# EAGLE library part GP2Y0A60SZ (library we-sensor)
Sharp GP2Y0A60SZxF Distance Measuring Sensor (10 to 150 cm)
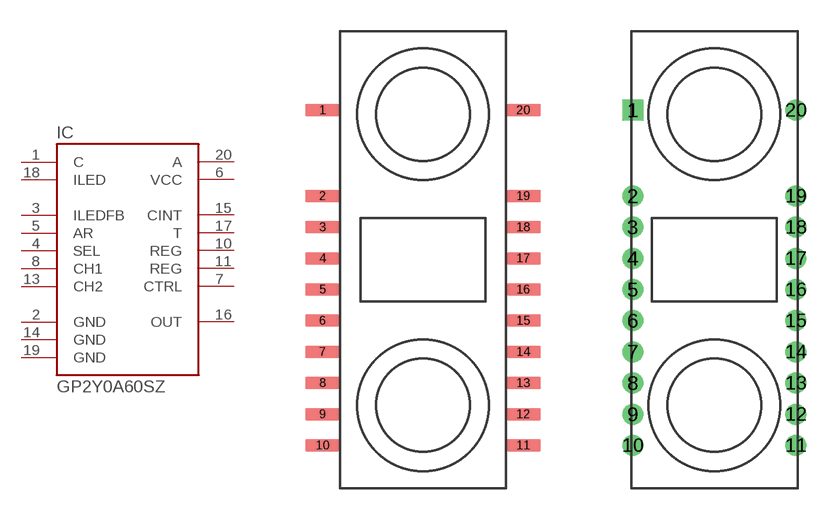
[diagram p3: symbol with the pads of GP2Y0A60SZ0F; footprints GP2Y0A60SZ0F, GP2Y0A60SZLF]

Designator prefix IC

## GP2Y0A60SZ0F  [GP2Y0A60SZ0F]
1  C
2  GND  pwr
3  ILEDFB
4  SEL
5  AR
6  VCC  pwr
7  CTRL
8  CH1
10  REG
11  REG
13  CH2
14  GND  pwr
15  CINT
16  OUT  out
17  T
18  ILED
19  GND  pwr
20  A

## GP2Y0A60SZLF  [GP2Y0A60SZLF]
Pads as for GP2Y0A60SZ0F

## Footprint GP2Y0A60SZ0F (pad centres in mm)
smd 1.676 x 0.6: 1 -4.826,7.2; 2 -4.826,3.07; 3 -4.826,1.57; 4 -4.826,0.07; 5 -4.826,-1.43; 6 -4.826,-2.93; 7 -4.826,-4.43; 8 -4.826,-5.93; 9 -4.826,-7.43; 10 -4.826,-8.93; 11 4.826,-8.93; 12 4.826,-7.43; 13 4.826,-5.93; 14 4.826,-4.43; 15 4.826,-2.93; 16 4.826,-1.43; 17 4.826,0.07; 18 4.826,1.57; 19 4.826,3.07; 20 4.826,7.2

## Footprint GP2Y0A60SZLF (pad centres in mm)
drill 0.5 pad 1 square: 1 -3.925,7.2
drill 0.5 pad 1: 2 -3.925,3.07; 3 -3.925,1.57; 4 -3.925,0.07; 5 -3.925,-1.43; 6 -3.925,-2.93; 7 -3.925,-4.43; 8 -3.925,-5.93; 9 -3.925,-7.43; 10 -3.925,-8.93; 11 3.925,-8.93; 12 3.925,-7.43; 13 3.925,-5.93; 14 3.925,-4.43; 15 3.925,-2.93; 16 3.925,-1.43; 17 3.925,0.07; 18 3.925,1.57; 19 3.925,3.07; 20 3.925,7.2